# EAGLE library part DIGITAL-TEMP-SENSOR-TMP102 (library FlashPCB_Sensors)
TMP102 - SENSOR DIGITAL -40C-125C SOT563 Technical Specifications: Temperature Sensor Digital, Local -40°C ~ 125°C 12 b SOT-563 Sensor Type: Digital, Local Sensing Temperature Range: -40*C ~ 125*C Output Type: I2C/SMBus Supply Voltage: 1.4V~3.6V Resolution: 12-bit Features: One-Shot, Output Switch, Shudtown Mode Component Search: TMP102 <https://www.flashpcb.com/components> Datasheet: TMP102 Low-Power Digital Temperature Sensor With SMBus and Two-Wire Serial Interface in SOT563 datasheet (Rev. H) <https://www.ti.com/lit/ds/symlink/tmp102.pdf?HQS=dis-dk-null-digikeymode-dsf-pf-null-wwe&ts=1685546715202&ref_url=https%253A%252F%252Fwww.ti.com%252Fgeneral%252Fdocs%252Fsuppproductinfo.tsp%253FdistId%253D10%2526gotoUrl%253Dhttps%253A%252F%252Fwww.ti.com%252Flit%252Fgpn%252Ftmp102>
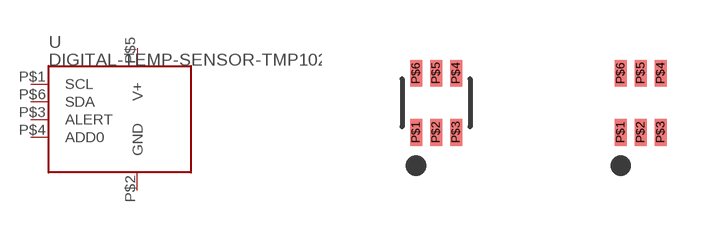
[diagram p8: symbol with the pads of SOT-563; footprints SOT-563, SOT-563_NOSILK]

Designator prefix U

## DIGITAL-TEMP-SENSOR-TMP102DRL  [SOT-563]
P$1  SCL
P$2  GND
P$3  ALERT
P$4  ADD0
P$5  V+
P$6  SDA

## DIGITAL-TEMP-SENSOR-TMP102DRL_NOSILK  [SOT-563_NOSILK]
Pads as for SOT-563

## Footprint SOT-563 (pad centres in mm)
smd 0.3 x 0.67: P$1 -0.5,-0.74; P$2 0,-0.74; P$3 0.5,-0.74; P$4 0.5,0.74; P$5 0,0.74; P$6 -0.5,0.74

## Footprint SOT-563_NOSILK (pad centres in mm)
smd 0.3 x 0.67: P$1 -0.5,-0.74; P$2 0,-0.74; P$3 0.5,-0.74; P$4 0.5,0.74; P$5 0,0.74; P$6 -0.5,0.74